# Altium footprint library AZ1117IH-3.PCBLIB: 1 footprints
Each footprint in its own frame and in the unit in brackets; x right, y up, seen from the top. Pads: shape width x height; smd on the part's side, far side on the other; paste and mask are expansions set on the pad; w line width, h text height; cw(c..) or ccw(c..) is an arc to the next point about the centre after c.
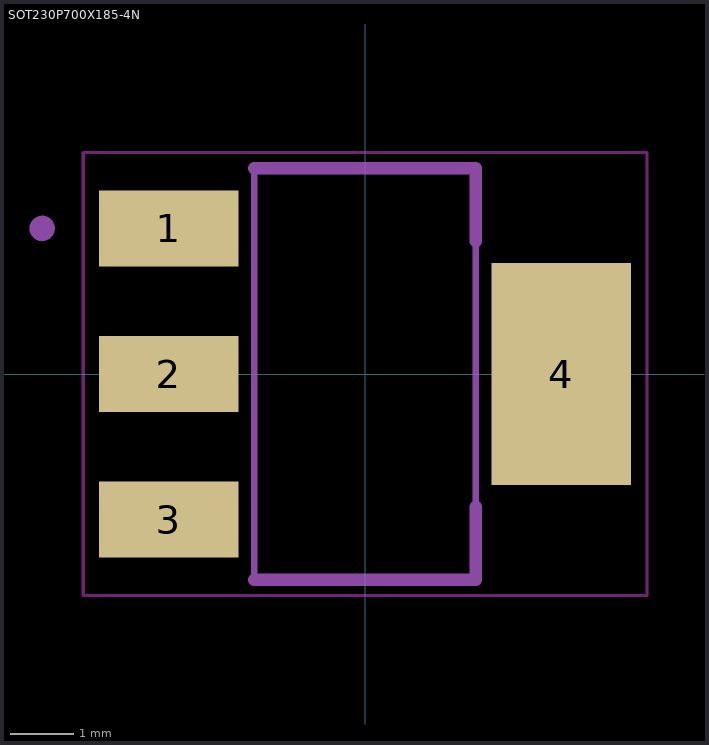
[diagram p0: the footprint, top view; thin cyan lines are the x and y axes]

## SOT230P700X185-4N [mm]
pads (4):
  rect 2.2x1.2 smd: 1(-3.1,2.3) 2(-3.1,0) 3(-3.1,-2.3)
  rect 2.2x3.5 smd: 4(3.1,0)
Top keep-out:
  lines w0.05: -4.45,-3.5 -4.45,3.5 4.45,3.5 4.45,-3.5 -4.45,-3.5
tDocu:
  circle w0.2: c-5.1,2.3 r0.1
  lines w0.1: -1.75,-3.25 1.75,-3.25 1.75,3.25 -1.75,3.25 -1.75,-3.25
tPlace:
  circle w0.2: c-5.1,2.3 r0.1
  lines w0.2: -1.75,-3.25 1.75,-3.25 1.75,-2.1 ; -1.75,3.25 1.75,3.25 1.75,2.1
3D body "AZ1117IH-3.3TRG1.STEP": height 1.65, standoff 0, extent -3.5,-3.25 3.5,3.25